# Altium footprint library 788000001.PcbLib: 1 footprints
Each footprint in its own frame and in the unit in brackets; x right, y up, seen from the top. Pads: shape width x height; smd on the part's side, far side on the other; paste and mask are expansions set on the pad; w line width, h text height; cw(c..) or ccw(c..) is an arc to the next point about the centre after c.
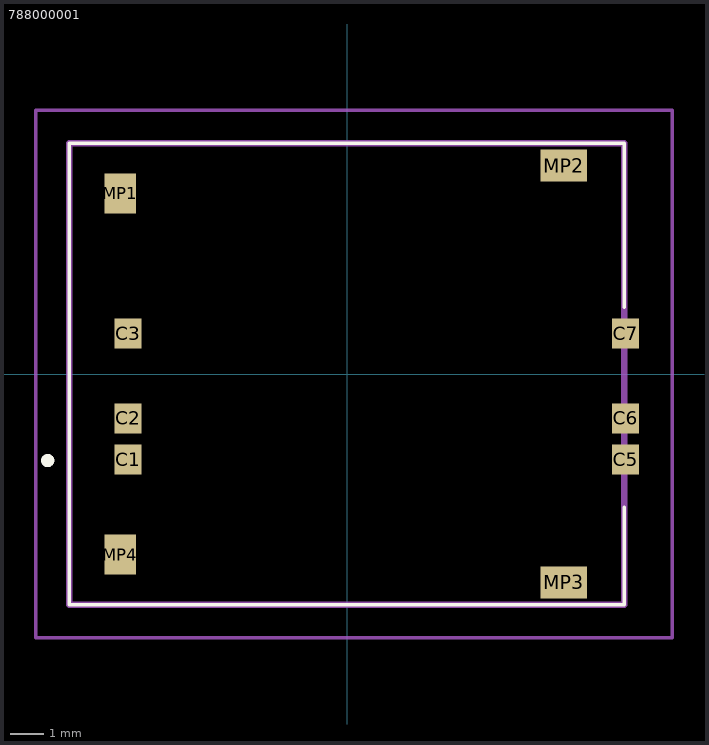
[diagram p0: the footprint, top view; thin cyan lines are the x and y axes]

## 788000001 [mm]
pads (10):
  rect 0.8x0.9 smd: C1(-6.585,-2.57) C2(-6.585,-1.33) C3(-6.585,1.21) C5(8.355,-2.57) C6(8.355,-1.33) C7(8.355,1.21)
  rect 0.95x1.2 smd: MP1(-6.815,5.425) MP4(-6.815,-5.425)
  rect 1.4x0.95 smd: MP2(6.495,6.26) MP3(6.495,-6.26)
Top Overlay:
  lines w0.1: 8.32,-4 8.32,-6.925 -8.355,-6.925 -8.355,6.925 8.32,6.925 8.32,2
  lines w0.2: -9,-2.7 cw(c-9,-2.6) -9,-2.5 ; -9,-2.7 -9,-2.7 ; -9,-2.7 ccw(c-9,-2.6) -9,-2.5 ; -9,-2.5 -9,-2.5
Mechanical 15:
  lines w0.2: -8.355,-6.925 8.32,-6.925 8.32,6.925 -8.355,6.925 -8.355,-6.925
Mechanical 20:
  lines w0.1: -9.355,-7.925 9.755,-7.925 9.755,7.925 -9.355,7.925 -9.355,-7.925